# Altium integrated library PZ-S1216 GPS模块.IntLib: 9 symbols
Pins are listed as number, name and electrical type; pins without a type are passive.

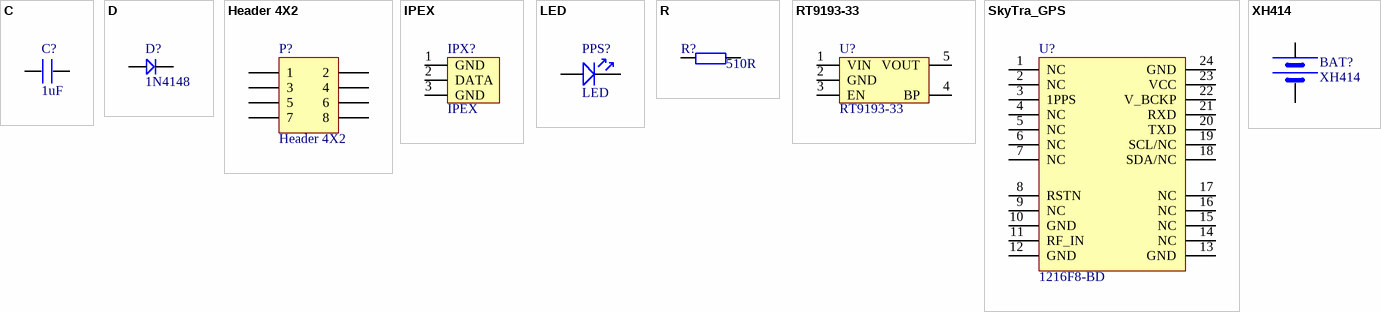
[diagram p0: symbols C to XH414]

## C
designator C?, comment 1uF
footprint 0603P
footprint 0805
footprint CC5.08 (CAP0.1)
footprint CC4.572 (222/332)
footprint 1206
footprint 1210
footprint CC6.096
footprint CC7.62
footprint 0603
pins: 1, 2

## D
designator D?, comment 1N4148
footprint SOD-123
footprint DIODE_SOP
footprint DIODE-L (6A10)
footprint DIODE-M (1N5822)
footprint DIODE_S (1N4007)
footprint DIODE_3*5.3 (ME:SS14/SS24;L:5.3mm;W:3mm;)
footprint DIODE_4*5.6 (ME:RS2J.L:5.6mm;W:4mm)
footprint DIODE_6.2*8.13 (ME:RS2J.L:8.13mm;W:6.2mm)
pins: 1, 2

## Header 4X2
designator P?
Header, 4-Pin, Dual row; LatestRevisionDate: 17-Jul-2002; LatestRevisionNote: Re-released for DXP Platform.; Publisher: Altium Limited
footprint HDR2X4 (Connector; Header; 4x2 Position)
signal-integrity model Connector
pins: 1, 2, 3, 4, 5, 6, 7, 8

## IPEX
designator IPX?
IPEX座
footprint IPEX (IPEX座 2.6mm*2.6mm*1.25mm)
pins: 1 GND, 2 DATA, 3 GND

## LED
designator PPS?
footprint SMDLED
footprint LED-DIP (PIN:2.54MM;H:5MM;)
footprint 0603
pins: 1, 2

## R
designator R?, comment 510R
footprint 0805
footprint 0603P
footprint 0603
pins: 1, 2

## RT9193-33
designator U?
3.3V超低压差LDO
footprint SOT-23-5
footprint SOT-23-5
pins: 1 VIN, 2 GND, 3 EN, 4 BP, 5 VOUT

## SkyTra_GPS
designator U?, comment 1216F8-BD
footprint GPS_NEO-6
footprint GPS_NEO-6
pins: 1 NC, 2 NC, 3 1PPS, 4 NC, 5 NC, 6 NC, 7 NC, 8 RSTN, 9 NC, 10 GND, 11 RF_IN, 12 GND, 13 GND, 14 NC, 15 NC, 16 NC, 17 NC, 18 SDA/NC, 19 SCL/NC, 20 TXD, 21 RXD, 22 V_BCKP, 23 VCC, 24 GND

## XH414
designator BAT?
XH414 IV01E
footprint XH414
footprint BAT (BATTERY)
footprint XH414
footprint XH414
footprint XH414
pins: 1 VCC, 2 GND